# Altium schematic symbol library bspd parts.SchLib: 44 symbols
Pins are listed as number, name and electrical type; pins without a type are passive.

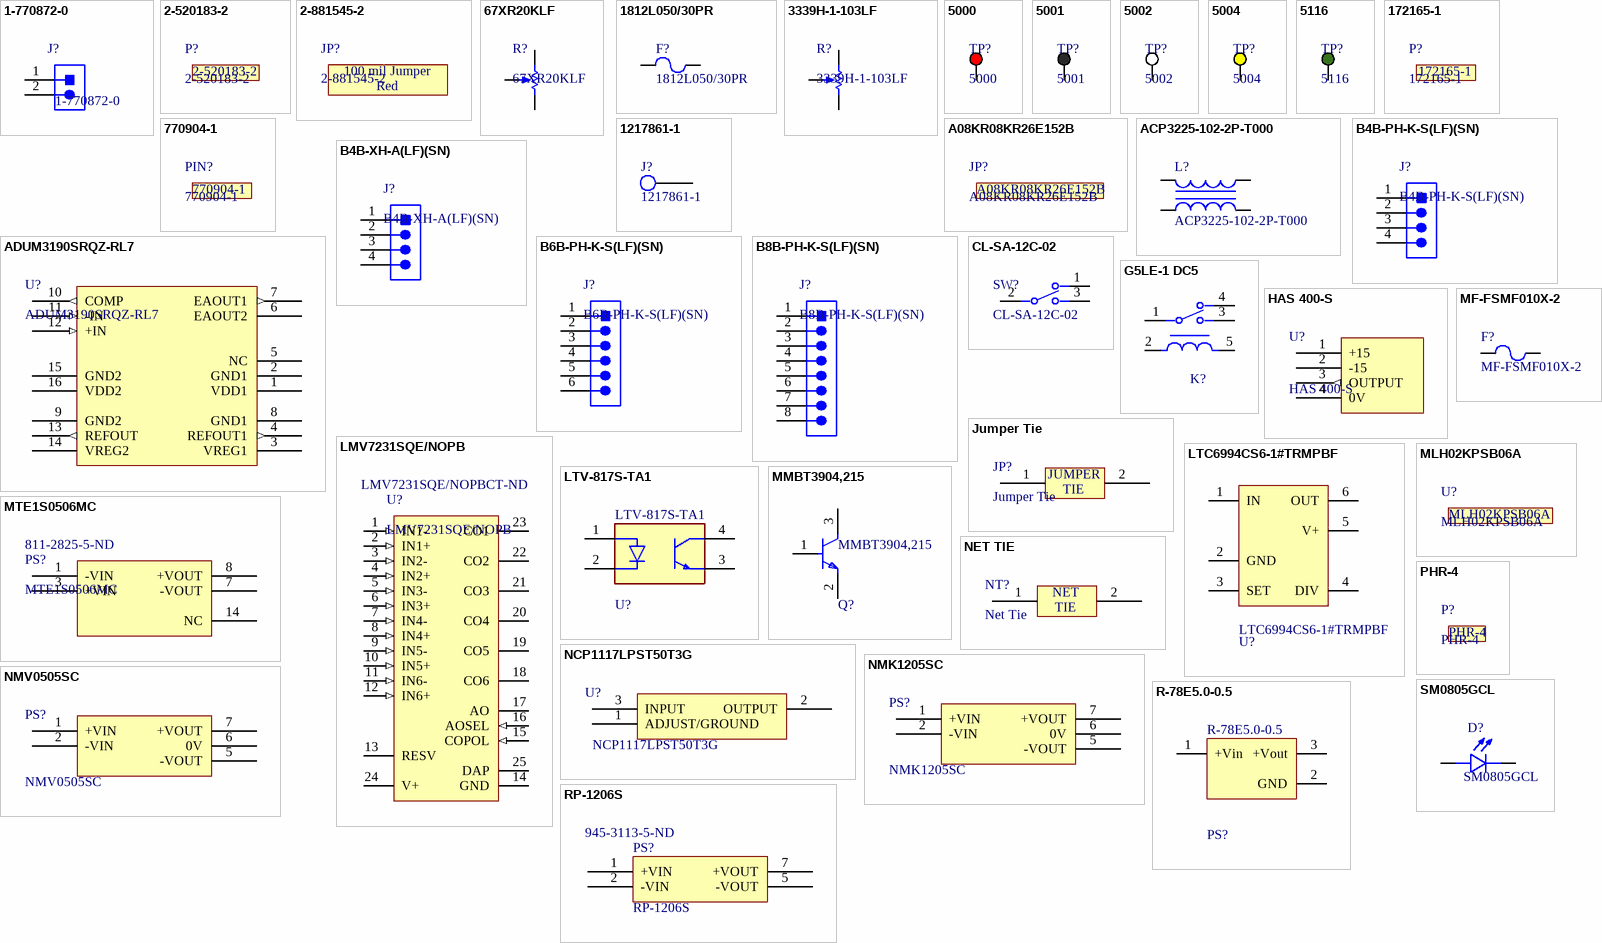
[diagram p0: symbols 1-770872-0 to SM0805GCL]

## 1-770872-0
designator J?
Connector Header Through Hole 2 position 0.163" (4.14mm); Vendor: TE Connectivity; Built_By: EMA_UL_Team; Manufacturer_Part_Number: 1-770872-0; Copyright: Copyright (C) 2018 Accelerated Designs. All rights reserved; RefDes: RefDes; Type: DEV; Value: Value
footprint CON2_1X2_P163_VM
footprint CON2_1X2_P163_VM_ALT
pins: 1, 2

## 2-520183-2
designator P?  (mechanical)
0.250" (6.35mm) Quick Connect Female 18-22 AWG Crimp Connector Fully Insulated; Supplier 1: Digi-Key; Supplier Part Number 1: A27817CT-ND

## 2-881545-2
designator JP?  (mechanical)
2 (1 x 2) Position Shunt Connector Red Open Top, Grip 0.100" (2.54mm) Gold; Supplier 1: Digi-Key; Supplier Part Number 1: 2-881545-2-ND
text: 100 mil Jumper; Red

## 67XR20KLF
designator R?
20 kOhms 0.5W, 1/2W PC Pins Through Hole Trimmer Potentiometer Cermet 20 Turn Side Adjustment; ComponentLink2URL: https://www.ttelectronics.com/TTElectronics/media/ProductFiles/Trimmers/Datasheets/67.pdf; ComponentLink2Description: Datasheet; Supplier 1: Digi-Key; Supplier 2: Digi-Key; Supplier Part Number 1: 987-1096-ND; Supplier Part Number 2: 987-1790-5-ND
footprint 67X
pins: 1 CCW, 2 WIPER, 3 CW

## 1812L050/30PR
designator F?
PTC Resettable Fuse, 0.8 W, 30 V, -40 to 85 degC, 2-Pin SMD, RoHS, Tape and Reel; Manufacturer: Littelfuse-Inc.; Manufacturer 1: Littelfuse; Voltage - Max: 30V; Current - Hold (Ih) (Max): 500mA; Time to Trip: 0.15s; Current - Max: 100A; R Min/Max: 0.150~1.000Ohm; Current - Trip (It): 1A; Package Reference: 1812; Family: PTCResettableFuses; Packaging: Tape&Reel(TR); Package / Case: 1812(4532Metric),Concave; Series: POLY-FUSE®,1812L; Mounting Technology: SurfaceMount; Datasheet Version: 02/2016; Datasheet URL: http://www.littelfuse.com/~/media/electronics/datasheets/resettable_ptcs/littelfuse_ptc_1812l_datasheet.pdf.pdf; Manufacturer URL: http://www.littelfuse.com/; Category: CircuitProtection; Package Description: 2-Pin Surface Mount Device, Body 4.55 x 3.24 mm; Manufacturer Part Number 1: 1812L050/30PR
footprint LFUS-1812L05030PR_V (SMD, 2-Leads, Body 4.55x3.24mm)
pins: 1, 2

## 3339H-1-103LF
designator R?
10 kOhms 0.5W, 1/2W PC Pins Through Hole Trimmer Potentiometer Cermet 4 Turn Top Adjustment; ComponentLink2URL: https://www.ttelectronics.com/TTElectronics/media/ProductFiles/Trimmers/Datasheets/67.pdf; ComponentLink2Description: Datasheet; Supplier 1: Digi-Key; Supplier Part Number 1: 3339H-103LF-ND
footprint 3339H-1-103LF
pins: 1 CCW, 2 WIPER, 3 CW

## 5000
designator TP?
Test Point, Red, 1-Pin THD, RoHS, Bulk; Manufacturer: KeystoneElectronics; Outside Diameter: 2.54mm; Plating: Silver; Mounting Hole Size: 1mm; Product: TestPoints; Packaging: Bulk; Manufacturer URL: http://www.keyelco.com/; Length: 7.62mm; Datasheet Version: Rev. G, 12/2008; Type: Miniature; Product Category: CircuitBoardHardware-PCB; Material: Nylon; RoHS: True; Contact Material: PhosphorBronze; Datasheet URL: https://ciiva.com/datasheet-click-2917627?src=ciiva&sig=bd195616; Color: Red; Brand: KeystoneElectronics; Supplier 1: Digi-Key; Supplier Part Number 1: 36-5000-ND
footprint KSTN-5002 (Test Point, Through Hole, Dia 2.54mm)
pins: 1

## 5001
designator TP?
Test Point, Black, 1-Pin THD, RoHS, Bulk; Manufacturer: KeystoneElectronics; Outside Diameter: 2.54mm; Plating: Silver; Mounting Hole Size: 1mm; Product: TestPoints; Packaging: Bulk; Manufacturer URL: http://www.keyelco.com/; Length: 7.62mm; Datasheet Version: Rev. G, 12/2008; Type: Miniature; Product Category: CircuitBoardHardware-PCB; Material: Nylon; RoHS: True; Contact Material: PhosphorBronze; Datasheet URL: https://ciiva.com/datasheet-click-2917627?src=ciiva&sig=bd195616; Color: Red; Brand: KeystoneElectronics; Supplier 1: Digi-Key; Supplier Part Number 1: 36-5001-ND
footprint KSTN-5002 (Test Point, Through Hole, Dia 2.54mm)
pins: 1

## 5002
designator TP?
Test Point, White, 1-Pin THD, RoHS, Bulk; Manufacturer: KeystoneElectronics; Outside Diameter: 2.54mm; Plating: Silver; Mounting Hole Size: 1mm; Product: TestPoints; Packaging: Bulk; Manufacturer URL: http://www.keyelco.com/; Length: 7.62mm; Datasheet Version: Rev. G, 12/2008; Type: Miniature; Product Category: CircuitBoardHardware-PCB; Material: Nylon; RoHS: True; Contact Material: PhosphorBronze; Datasheet URL: https://ciiva.com/datasheet-click-2917627?src=ciiva&sig=bd195616; Color: White; Brand: KeystoneElectronics; Supplier 1: Digi-Key; Supplier Part Number 1: 36-5002-ND
footprint KSTN-5002 (Test Point, Through Hole, Dia 2.54mm)
pins: 1

## 5004
designator TP?
Test Point, Yellow, 1-Pin THD, RoHS, Bulk; Manufacturer: KeystoneElectronics; Outside Diameter: 2.54mm; Plating: Silver; Mounting Hole Size: 1mm; Product: TestPoints; Packaging: Bulk; Manufacturer URL: http://www.keyelco.com/; Length: 7.62mm; Datasheet Version: Rev. G, 12/2008; Type: Miniature; Product Category: CircuitBoardHardware-PCB; Material: Nylon; RoHS: True; Contact Material: PhosphorBronze; Datasheet URL: https://ciiva.com/datasheet-click-2917627?src=ciiva&sig=bd195616; Color: Red; Brand: KeystoneElectronics; Supplier 1: Digi-Key; Supplier Part Number 1: 36-5004-ND
footprint KSTN-5002 (Test Point, Through Hole, Dia 2.54mm)
pins: 1

## 5116
designator TP?
Test Point, Green, 1-Pin THD, RoHS, Bulk; Manufacturer: KeystoneElectronics; Outside Diameter: 2.54mm; Plating: Silver; Mounting Hole Size: 1mm; Product: TestPoints; Packaging: Bulk; Manufacturer URL: http://www.keyelco.com/; Length: 7.62mm; Datasheet Version: Rev. G, 12/2008; Type: Miniature; Product Category: CircuitBoardHardware-PCB; Material: Nylon; RoHS: True; Contact Material: PhosphorBronze; Datasheet URL: https://ciiva.com/datasheet-click-2917627?src=ciiva&sig=bd195616; Color: Red; Brand: KeystoneElectronics; Supplier 1: Digi-Key; Supplier Part Number 1: 36-5116-ND
footprint KSTN-5002 (Test Point, Through Hole, Dia 2.54mm)
pins: 1

## 172165-1
designator P?  (mechanical)
2 Position Rectangular Housing Connector Plug Natural 0.163" (4.14mm); Supplier 1: Digi-Key; Supplier Part Number 1: A25587-ND

## 770904-1
designator PIN?  (mechanical)
Socket Contact  Crimp 18-22 AWG Stamped; Supplier 1: Digi-Key; Supplier Part Number 1: A25684CT-ND

## 1217861-1
designator J?
CONN TAB .250 STR QC TIN PCB; Gender: Male; Hole Diameter: 0.055inch; Insulation: Non-Insulated; Tab Length: 0.352inch; Tab Thickness: 0.032inch; Tab Width: 0.25inch; PCB Thickness: 0.062inch; Body Material: Brass; Insulated Wire Support: Yes; Contact Material: Brass; Contact Plating: Tin; ELV: Compliant; Length: 0.552inch; Material: Brass; Mount: Through Hole; Package Quantity: 2000; Packaging: Tape and Reel; Termination: Tab; Mating Tab Width: 0.25inch; Body Plating: Tin; Depth: 7.92mm; Plating: Tin; REACH SVHC: Unknown; Terminal Material: Brass; Lead Free: Lead Free; Supplier 1: Digi-Key; Supplier Part Number 1: A100452CT-ND
footprint 1217861-1
pins: 1

## A08KR08KR26E152B
designator JP?  (mechanical)
8 Position Cable Assembly Rectangular Socket to Socket 0.500' (152.40mm, 6.00"); Supplier 1: Digi-Key; Supplier Part Number 1: 455-3153-ND

## ACP3225-102-2P-T000
designator L?
Common Mode Filter, 1000 Ohm Impedance, 1.2 A, 60 V, -40 to 85 degC, 4-Pin SMD, RoHS, Tape and Reel; Manufacturer: TDK; Online Catalog: ACPSeries; Other Names: 445-8637-6; Current: 1.5A; Featured Product: ACP3225SeriesFilter; Number of Lines: 2; Filter Type: PowerLine; Impedance: 1kOhm; DC Resistance (DCR): 50mOhm; Manufacturer URL: http://www.tdk.com/; Package Description: 4-Pin Surface Mount Device, Body 3.2 x 2.5 mm, Pitch 1.15 mm; Datasheet Version: Rev. 8, 07/2011; Package / Case: 1210(3225Metric),4Lead; Packaging: Digi-Reel; Inductance: -; Height (Max): 0.079"(2.00mm); Operating Temperature: -40degC~85degC; Size / Dimension: 0.126"Lx0.098"W(3.20mmx2.50mm); Datasheet URL: https://datasheet.ciiva.com/30106/acp3225-series-30106482.pdf; Standard Package: 1; Series: ACP; Mounting Type: SurfaceMount; Package Reference: ACP3225-102-2P-T000-4; Family: CommonModeChokes; Category: Filters; Manufacturer 1: TDK; Manufacturer Part Number 1: ACP3225-102-2P-T000
footprint TDK-ACP3225-102-2P-T000-4_V (SMD, 4-Leads, Body 3.4x2.7mm)
pins: 1, 2, 3, 4

## ADUM3190SRQZ-RL7
designator U?
Isolator, Error Amplifier IC Shunt Regulators, Linear Power Supplies, Inverters, UPS 16-QSOP; Supplier 1: Digi-Key; Supplier Part Number 1: ADUM3190SRQZ-RL7CT-ND
footprint RQ-16 (SOP, 16-Leads, Body 4.90x3.91mm, Pitch 0.64mm, IPC Medium Density)
pins: 1 VDD1 (power), 2 GND1 (power), 3 VREG1 (power), 4 REFOUT1 (out), 5 NC "Connect to GND", 6 EAOUT2 (oc) "OUT Open Drain", 7 EAOUT1 (out), 8 GND1 (power), 9 GND2 (power), 10 COMP (out), 11 -IN (in), 12 +IN (in), 13 REFOUT (out), 14 VREG2 (power), 15 GND2 (power), 16 VDD2 (power)

## B4B-PH-K-S(LF)(SN)
designator J?
Male Header, Pitch 2 mm, 1 x 4 Position, Height 6 mm, Tail Length 3.4 mm, -25 to 85 degC, RoHS, Bulk; Manufacturer: JST; No of Positions: 4; Style/Orientation: StraightHeader/Plug; Pitch: 2mm; Datasheet URL: http://datasheet.octopart.com/B4B-PH-K-S%28LF%29%28SN%29-JST-datasheet-10558886.pdf; Type: ShroudedHeader; Manufacturer URL: http://www.jst.com/home2.html; Termination: Crimp; Datasheet Version: Apr-09; Supplier 1: Newark; Supplier Part Number 1: 37K9958
footprint B4B-PH-K
pins: 1, 2, 3, 4

## B4B-XH-A(LF)(SN)
designator J?
Connector Header Through Hole 4 position 0.098" (2.50mm); Manufacturer: JST; No of Positions: 4; Style/Orientation: StraightHeader/Plug; Type: ShroudedHeader; Manufacturer URL: http://www.jst.com/home2.html; Termination: Crimp; Datasheet Version: Apr-09; Supplier 1: Newark; Supplier Part Number 1: 73M9436
footprint B4B-XH-A(LF)(SN)
pins: 1, 2, 3, 4

## B6B-PH-K-S(LF)(SN)
designator J?
Connector Header Through Hole 6 position 0.079" (2.00mm); Supplier 1: Newark; Supplier Part Number 1: 37K9974
footprint B6B-PH-K
pins: 1, 2, 3, 4, 5, 6

## B8B-PH-K-S(LF)(SN)
designator J?
Connector Header Through Hole 8 position 0.079" (2.00mm); Supplier 1: Digi-Key; Supplier Part Number 1: 455-1710-ND
footprint B8B-PH-K
pins: 1, 2, 3, 4, 5, 6, 7, 8

## CL-SA-12C-02
designator SW?
Slide Switch SPDT Through Hole; Supplier 1: Digi-Key; Supplier Part Number 1: 563-1388-ND
footprint CL-SA-12C-02
pins: 1, 2, 3

## G5LE-1 DC5
designator K?, comment Relay_Omron_Electronics_Inc._G5LE-1_DC5_eec  (value not drawn)
General Purpose Relay SPDT (1 Form C) 5VDC Coil Through Hole; Part Number: G5LE-1 DC5; Manufacturer: Omron Electronics Inc.; Voltage: 30V; coil_voltage: 5V; coil_resistance: 63Ω; Operate Time: 10ms; Release Time: 5ms; Symbol 0 0: SPDT Relay; Num Pins: 5; contact_current_rating: 10A; helpURL: https://upverter.com/upn/revision/737368c9962922c8/; ComponentLink2Description: Datasheet; Temperature: -40°C to +85°C; Package: PTH_RELAY_21MM6_15MM6; Supplier 2: Mouser; Supplier 1: Digi-Key; ComponentLink1URL: https://upverter.com/upn/revision/737368c9962922c8/; Supplier Part Number 2: 653-G5LE-1-DC5; Supplier Part Number 1: Z1014-ND; ComponentLink1Description: Upverter; ComponentLink2URL: https://www.components.omron.com/components/web/PDFLIB.nsf/0/0293ACA6B03161CD86257538007424DB/$file/G5LE_0813.pdf; RoHS: TRUE; Mouser Part Number: 653-G5LE-1-DC5; Temperature Range High: +85°C; Octopart Part Number: 11883359022; Digikey Description: RELAY GEN PURPOSE SPDT 10A 5V; Digikey Part Number: Z1014-ND; Type: integrated circuit; Lead Free: yes; Temperature Range Low: -40°C; contacts_type: SPDT
footprint Omron_Electronics_Inc._G5LE-1_DC5_0
pins: 1, 2, 3, 4, 5

## HAS 400-S
designator U?
Sensor Current Hall 400A Ac/dc; Supplier 1: Digi-Key; Supplier Part Number 1: 398-1053-ND
footprint HAS 400-S
pins: 1 +15 (power), 2 -15 (power), 3 OUTPUT (out), 4 0V (power)

## Jumper Tie
designator JP?
Jumper Net Tie (BOM); Supplier 1: Digi-Key; Supplier 2: Digi-Key; Supplier 3: Digi-Key; Supplier 4: Digi-Key; Supplier Part Number 1: SAM9019-ND; Supplier Part Number 2: ED1332-ND; Supplier Part Number 3: 36-5025-ND; Supplier Part Number 4: 923345-01-ND
footprint 100mil_jump
pins: 1, 2
text: JUMPER; TIE

## LMV7231SQE/NOPB
designator U?  Supplier Part Number 1: LMV7231SQE/NOPBCT-ND
Hex Window Comparator with 1.5% Precision and 400mV Reference, 24-pin LLP, 250 Reel; Manufacturer: Texas Instruments; PowerWise: N; PackageTopMarking: NS*UZXYTT*L7231SQ; Code_JEDEC: MO-220-WGGD-6; PinCount: 24; ComponentLink1Description: Datasheet URL; PackageDescription: LLP, Plastic, Quad, 4 x 4 x 0.8mm Body, 24 Lead, 0.5mm Pitch, No Pullback; PackageReference: RTW0024A; CompType: Comparator; RoHS: Y; ComponentLink1URL: http://www.ti.com/general/docs/lit/getliterature.tsp?genericPartNumber=LMV7231&fileType=pdf; Supplier 1: Digi-Key
footprint RTW0024A_V (QFN, 24-Leads, Body 4x4mm, Pitch 0.5mm, Thermal Pad 2.6x2.6mm, TI Recommended)
pins: 1 IN1- (in) "Negative input for window comparator 1", 2 IN1+ (in) "Positive input for window comparator 1", 3 IN2- (in) "Negative input for window comparator 2", 4 IN2+ (in) "Positive input for window comparator 2", 5 IN3- (in) "Negative input for window comparator 3", 6 IN3+ (in) "Positive input for window comparator 3", 7 IN4- (in) "Negative input for window comparator 4", 8 IN4+ (in) "Positive input for window comparator 4", 9 IN5- (in) "Negative input for window comparator 5", 10 IN5+ (in) "Positive input for window comparator 5", 11 IN6- (in) "Negative input for window comparator 6", 12 IN6+ (in) "Positive input for window comparator 6", 13 RESV "Connect to GND", 14 GND (power) "Ground reference pin for the power supply voltage", 15 COPOL (in) "The state of this pin determines whether the CO1-CO6 pins are active HIGH or LOW.", 16 AOSEL (in) "The state of this pin determines whether the AO pin is active on an over-voltage or under-voltage event.", 17 AO (oc) "This output is the ANDED combination of either the over- voltage comparator outputs or the under-voltage comparator outputs.", 18 CO6 (oc) "Window comparator 6 NMOS open-drain output", 19 CO5 (oc) "Window comparator 5 NMOS open-drain output", 20 CO4 (oc) "Window comparator 4 NMOS open-drain output", 21 CO3 (oc) "Window comparator 3 NMOS open-drain output", 22 CO2 (oc) "Window comparator 2 NMOS open-drain output", 23 CO1 (oc) "Window comparator 1 NMOS open-drain output", 24 V+ (power) "Power supply pin", 25 DAP (power) "Die Attach Paddle (DAP) connect to GND"

## LTC6994CS6-1#TRMPBF
designator U?  (value not drawn)
IC DELAY LINE 8TAP PROG TSOT23-6; Manufacturer: Linear Technologies; Capacitance: SKIP; Library Path1: parts/IC_Linear_Technologies_LTC6994CS6-1#TRMPBF_eec.SchLib; Part Number: LTC6994CS6-1#TRMPBF; Datasheet Path: datasheets/IC_Linear_Technologies_LTC6994CS6-1#TRMPBF_eec.pdf; ComponentLink1Description: Upverter; ComponentLink1URL: https://upverter.com/upn/revision/f62c3d807553aaaa/; ComponentLink2Description: Datasheet; ComponentLink2URL: http://cds.linear.com/docs/en/datasheet/699412fb.pdf; Datasheet Path1: datasheets/IC_Linear_Technologies_LTC6994CS6-1#TRMPBF_eec.pdf; Digikey Description: IC DELAY LINE 8TAP PROG TSOT23-6; Digikey Part Number: LTC6994CS6-1#TRMPBFCT-ND; Inductance: SKIP; Lead Free: yes; Library Ref1: LTC6994CS6-1#TRMPBF; Mouser Part Number: 584-C6994CS6-1TRMPBF; Package: TSOT23-6; Price: 2.01987952065; Resistance: SKIP; RoHS: TRUE; Supplier 1: Digi-Key; Supplier 2: Mouser; Supplier Part Number 1: LTC6994CS6-1#TRMPBFCT-ND; Supplier Part Number 2: 584-C6994CS6-1TRMPBF; Temperature: 0°C to +70°C; Temperature Range High: +70°C; Temperature Range Low: 0°C; helpURL: https://upverter.com/upn/revision/f62c3d807553aaaa/
footprint Linear_Technologies_LTC6994CS6-1#TRMPBF_0
pins: 1 IN, 2 GND, 3 SET, 4 DIV, 5 V+, 6 OUT

## LTV-817S-TA1
designator U?
LTV Series Single Channel 35 V 5000 Vrms Transistor Output Optocoupler SMT-DIP-4; Supplier 1: Digi-Key; Supplier Part Number 1: 160-1893-1-ND
footprint Lite-On_LTV-817S-TA1_0
pins: 1 A, 2 C, 3 E, 4 C

## MF-FSMF010X-2
designator F?
Polymeric PTC Resettable Fuse 15V 100mA Ih Surface Mount 0603 (1608 Metric), Concave; Supplier 1: Digi-Key; Supplier Part Number 1: MF-FSMF010X-2CT-ND
footprint MF-FSMF (MF-FSMF Series - PTC Resettable Fuse)
pins: 1, 2

## MLH02KPSB06A
designator U?  (mechanical)
MLH Series Heavy Duty Pressure Transducer, sealed gage, amplified, 0 psi to 2,000 psi, 1/8-27 NPT port style, 0.5 Vdc to 4.5 Vdc from 5 Vdc excitation ratiometric output type, Metri-Pack 150 termination type.; Supplier 1: Digi-Key; Supplier Part Number 1: 480-2534-ND

## MMBT3904,215
designator Q?
MMBT3904 Series 40 V 200 mA 250 mW NPN Switching Transistor - SOT-23; Supplier 1: Digi-Key; Supplier Part Number 1: 1727-4044-1-ND
footprint Nexperia_SOT23_0
pins: 1 B, 2 E, 3 C

## MTE1S0506MC
designator PS?  Supplier Part Number 1: 811-2825-5-ND
Isolated Module DC DC Converter 1 Output 6V    167mA 4.5V - 5.5V Input; Supplier 1: Digi-Key
footprint MTE1
pins: 1 -VIN (power), 3 +VIN (power), 7 -VOUT (power), 8 +VOUT (power), 14 NC (power)

## NCP1117LPST50T3G
designator U?
NCP1117LPST50T3G; LDO Voltage Regulator; 1.1A; 5V; -0.3 to 18 Vin; 3+Tab-Pin SOT-223; Vendor: ON Semiconductor; Manufacturer_Part_Number: NCP1117LPST50T3G; Copyright: Copyright (C) 2016 Accelerated Designs. All rights reserved; RefDes: RefDes; Type: DEV; Value: Value
footprint SOT223-3
pins: 1 ADJUST/GROUND (power), 2 OUTPUT (power), 3 INPUT (power)

## NET TIE
designator NT?, comment Net Tie  (net tie, no BOM)
Net Tie (No BOM)
footprint 10MIL_TIE
footprint 20MIL_TIE
footprint 20MIL EXPOSED TIE
pins: 1, 2
text: NET; TIE

## NMK1205SC
designator PS?
Isolated Module DC DC Converter 2 Output 5V -5V   200mA, 200mA 10.8V - 13.2V Input; Supplier 1: Digi-Key; Supplier Part Number 1: 811-3393-5-ND
footprint NMV0505SC
pins: 1 +VIN (power), 2 -VIN (power), 5 -VOUT (power), 6 0V (power), 7 +VOUT (power)

## NMV0505SC
designator PS?
Isolated Module DC DC Converter 2 Output 5V -5V   100mA, 100mA 4.5V - 5.5V Input; Supplier 1: Digi-Key; Supplier Part Number 1: 811-1588-5-ND
footprint NMV0505SC
pins: 1 +VIN (power), 2 -VIN (power), 5 -VOUT (power), 6 0V (power), 7 +VOUT (power)

## PHR-4
designator P?  (mechanical)
4 Position Rectangular Housing Connector Receptacle Natural 0.079" (2.00mm); Supplier 1: Digi-Key; Supplier Part Number 1: 455-1164-ND

## R-78E5.0-0.5
designator PS?
IC Linear Regulator Replacement DC DC Converter 1 Output 5V 500mA 7V - 28V Input; Manufacturer: RECOM; Efficiency: 82-92% typ.; Input Voltage Range: 7V ~ 28V; Library Path1: parts/IC_RECOM_R-78E5.0-0.5_eec.SchLib; Max# Capacitive Load: 220µF; Part Number: R-78E5.0-0.5; Datasheet Path: datasheets/IC_RECOM_R-78E5.0-0.5_eec.pdf; ComponentLink1Description: Upverter; ComponentLink1URL: https://upverter.com/upn/revision/5351fc0564b0b61a/; ComponentLink2Description: Datasheet; ComponentLink2URL: https://www.recom-power.com/pdf/Innoline/R-78Exx-0.5.pdf; Datasheet Path1: datasheets/IC_RECOM_R-78E5.0-0.5_eec.pdf; Digikey Description: IC Linear Regulator Replacement DC DC Converter 1 Output 5V 500mA 7V - 28V Input; Digikey Part Number: 945-1648-5-ND; Lead Free: yes; Library Ref1: R-78E5.0-0.5; Mouser Part Number: 919-R-78E5.0-0.5; Output Current: 500mA; Output Voltage: 5V; Package: SIP-3; Price: 2.52764935796; RoHS: TRUE; Supplier 1: Digi-Key; Supplier 2: Mouser; Supplier Part Number 1: 945-1648-5-ND; Supplier Part Number 2: 919-R-78E5.0-0.5; Temperature: -40°C to +85°C; Temperature Range High: +85°C; Temperature Range Low: -40°C; helpURL: https://upverter.com/upn/revision/5351fc0564b0b61a/
footprint RECOM_R-78E5.0-0.5_0
pins: 1 +Vin (power), 2 GND (power), 3 +Vout (power)

## RP-1206S
designator PS?  Supplier Part Number 1: 945-3113-5-ND
1W DC/DC-Converter 'ECONOLINE' SIP7 5.2kV unreg; MF: Recom Power; Digi-Key_Purchase_URL: https://www.digikey.com/product-detail/en/recom-power/RP-1206S/945-3113-5-ND/7603366?utm_source=snapeda&utm_medium=aggregator&utm_campaign=symbol; SnapEDA_Link: https://www.snapeda.com/parts/RP-1206S/Recom%20Power/view-part/2760131/?ref=snap; Package: SIP-7 Recom Power; Digi-Key_Part_Number: 945-3113-5-ND; MP: RP-1206S; Value: *; Supplier 1: Digi-Key
footprint CONV_RP-1206S
pins: 1 +VIN (power), 2 -VIN (power), 5 -VOUT (power), 7 +VOUT (power)

## SM0805GCL
designator D?
Green 574nm LED Indication - Discrete 1.9V 0805 (2012 Metric); Supplier 1: Digi-Key; Supplier Part Number 1: 492-2525-1-ND
footprint LEDC2012X135N_SM0805GCL(Primary)
pins: A, C

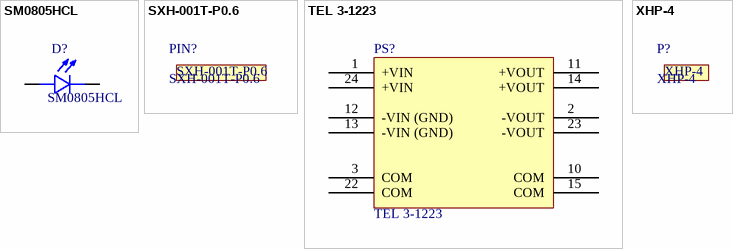
[diagram p1: symbols SM0805HCL to XHP-4]

## SM0805HCL
designator D?
Red 631nm LED Indication - Discrete 1.9V 0805 (2012 Metric); Supplier 1: Digi-Key; Supplier Part Number 1: 492-2281-1-ND
footprint LEDC2012X135N_SM0805HCL(Primary)
pins: A, C

## SXH-001T-P0.6
designator PIN?  (mechanical)
Socket Contact Tin 22-28 AWG Crimp Stamped; Supplier 1: Newark; Supplier Part Number 1: 49Y1258

## TEL 3-1223
designator PS?
Isolated Module DC DC Converter 2 Output 15V -15V   100mA, 100mA 9V - 18V Input; Supplier 1: Digi-Key; Supplier Part Number 1: 1951-2538-ND
footprint TEL 3-1223
pins: 1 +VIN (power), 2 -VOUT (power), 3 COM (power), 10 COM (power), 11 +VOUT (power), 12 -VIN (GND) (power), 13 -VIN (GND) (power), 14 +VOUT (power), 15 COM (power), 22 COM (power), 23 -VOUT (power), 24 +VIN (power)

## XHP-4
designator P?  (mechanical)
4 Position Rectangular Housing Connector Receptacle Natural 0.098" (2.50mm); Supplier 1: Digi-Key; Supplier Part Number 1: 455-2267-ND